# EAGLE library part ADS1118IRUGT (library SamacSys_Parts)
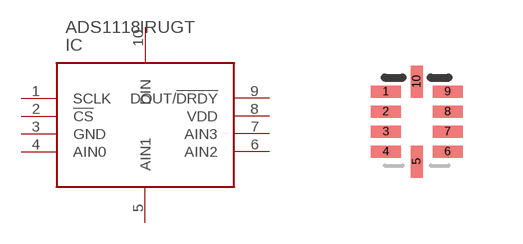
[diagram p20: symbol with the pads of X2QFN-10; footprint X2QFN-10]

Designator prefix IC

## ADS1118IRUGT  [X2QFN-10]
1  SCLK  in
2  !CS  in
3  GND  pwr
4  AIN0  in
5  AIN1  in
6  AIN2  in
7  AIN3  in
8  VDD  pwr
9  DOUT/!DRDY  out
10  DIN  in

## Footprint X2QFN-10 (pad centres in mm)
smd 0.75 x 0.3: 1 -0.775,0.75; 2 -0.775,0.25; 3 -0.775,-0.25; 4 -0.775,-0.75; 6 0.775,-0.75; 7 0.775,-0.25; 8 0.775,0.25; 9 0.775,0.75
smd 0.3 x 0.8: 5 0,-1; 10 0,1